# Altium footprint library SON50P500X300X75-17T175X450L.PcbLib: 1 footprints
Each footprint in its own frame and in the unit in brackets; x right, y up, seen from the top. Pads: shape width x height; smd on the part's side, far side on the other; paste and mask are expansions set on the pad; w line width, h text height; cw(c..) or ccw(c..) is an arc to the next point about the centre after c.
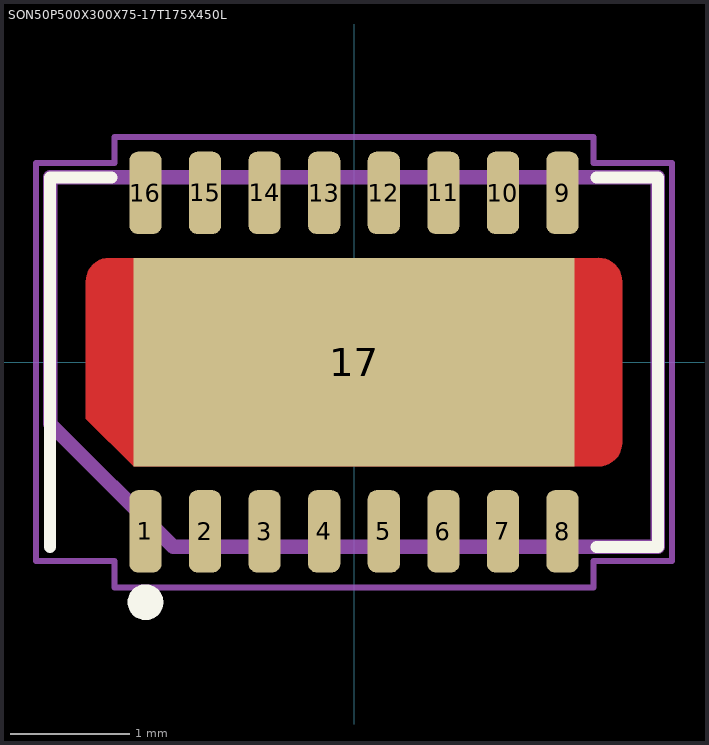
[diagram p0: the footprint, top view; thin cyan lines are the x and y axes]

## SON50P500X300X75-17T175X450L [mm] "Small Outline No-Lead (SON with Tab), 0.50 mm pitch; 16 pin, 5.00 mm L X 3.00 mm W X 0.75 mm H body"
height 0.75
pads (17):
  rrect52% 0.27x0.69 smd: 1(-1.75,-1.42) 2(-1.25,-1.42) 3(-0.75,-1.42) 4(-0.25,-1.42) 5(0.25,-1.42) 6(0.75,-1.42) 7(1.25,-1.42) 8(1.75,-1.42) 9(1.75,1.42) 10(1.25,1.42) 11(0.75,1.42) 12(0.25,1.42) 13(-0.25,1.42) 14(-0.75,1.42) 15(-1.25,1.42) 16(-1.75,1.42)
  rect 3.7x1.75 smd paste-3.7 mask+0: 17(0,0)
Top Layer:
  region: 2.25,0 2.25,-0.675 2.248,-0.706 2.24,-0.737 2.228,-0.766 2.212,-0.793 2.191,-0.816 2.168,-0.837 2.141,-0.853 2.112,-0.865 2.081,-0.873 -1.85,-0.875 -2.25,-0.475 -2.25,0.675 -2.248,0.706 -2.24,0.737 -2.228,0.766 -2.212,0.793 -2.191,0.816 -2.168,0.837 -2.141,0.853 -2.112,0.865 -2.081,0.873 2.05,0.875 2.081,0.873 2.112,0.865 2.141,0.853 2.168,0.837 2.191,0.816 2.212,0.793 2.228,0.766 2.24,0.737 2.248,0.706 2.25,0.675
Top Overlay:
  circle w0.15: c-1.75,-2.015 r0.075
  lines w0.1: -2.55,-1.55 -2.55,1.55 -2.035,1.55 ; 2.035,-1.55 2.55,-1.55 2.55,1.55 2.035,1.55
Top Paste:
  region: -0.12,0.12 -2.01,0.12 -2.01,0.64 -0.12,0.64
  region: -0.12,-0.64 -2.01,-0.64 -2.01,-0.12 -0.12,-0.12
  region: 2.01,0.12 0.12,0.12 0.12,0.64 2.01,0.64
  region: 2.01,-0.64 0.12,-0.64 0.12,-0.12 2.01,-0.12
Top Solder:
  region: 2.25,0 2.25,-0.675 2.248,-0.706 2.24,-0.737 2.228,-0.766 2.212,-0.793 2.191,-0.816 2.168,-0.837 2.141,-0.853 2.112,-0.865 2.081,-0.873 -1.85,-0.875 -2.25,-0.475 -2.25,0.675 -2.248,0.706 -2.24,0.737 -2.228,0.766 -2.212,0.793 -2.191,0.816 -2.168,0.837 -2.141,0.853 -2.112,0.865 -2.081,0.873 2.05,0.875 2.081,0.873 2.112,0.865 2.141,0.853 2.168,0.837 2.191,0.816 2.212,0.793 2.228,0.766 2.24,0.737 2.248,0.706 2.25,0.675
Fab - Detail1, HDI1:
  lines w0.12: -2.55,-0.517 -2.55,1.55 2.55,1.55 2.55,-1.55 -1.517,-1.55 -2.55,-0.517
Courtyards/Models - Top:
  lines w0.05: -2.67,-1.67 -2.67,1.67 -2.01,1.67 -2.01,1.89 2.01,1.89 2.01,1.67 2.67,1.67 2.67,-1.67 2.01,-1.67 2.01,-1.89 -2.01,-1.89 -2.01,-1.67 -2.67,-1.67
3D body: height 0.75, standoff 0.05, extent -2.5,-1.5 2.5,1.5